# Altium schematic symbol library Schlib.SchLib: 6 symbols
Pins are listed as number, name and electrical type; pins without a type are passive.

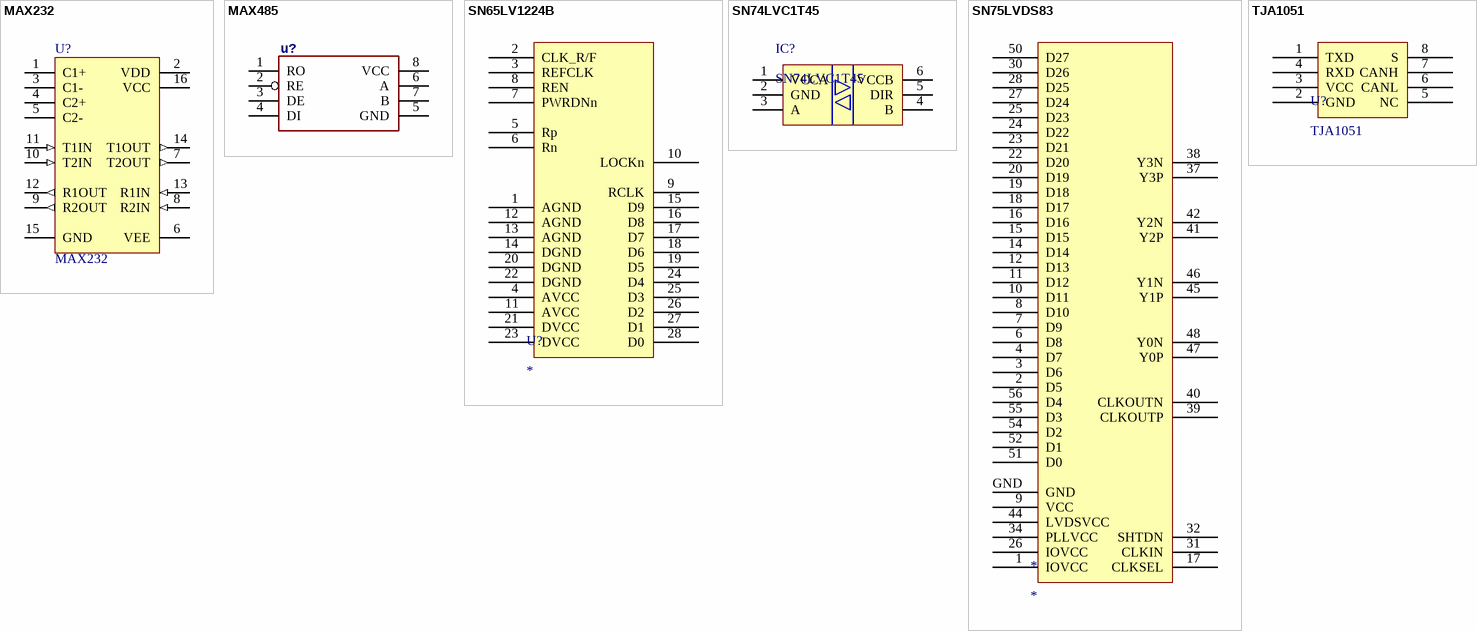
[diagram p0: symbols MAX232 to TJA1051]

## MAX232
designator U?
+5V Powered, Multi-Channel RS-232 Driver/Receiver
footprint _DIP16 (Footprint not found)
footprint _SO16 (Footprint not found)
pins: 1 C1+, 2 VDD (power), 3 C1-, 4 C2+, 5 C2-, 6 VEE (power), 7 T2OUT (out), 8 R2IN (in), 9 R2OUT (out), 10 T2IN (in), 11 T1IN (in), 12 R1OUT (out), 13 R1IN (in), 14 T1OUT (out), 15 GND (power), 16 VCC (power)

## MAX485
designator u?  (value not drawn)
footprint _DIP08 (Footprint not found)
footprint _SO08
footprint _DIP08-KIT (Footprint not found)
pins: 1 RO, 2 RE, 3 DE, 4 DI, 5 GND, 6 A, 7 B, 8 VCC

## SN65LV1224B
designator U?
footprint sn65lv1224
pins: 1 AGND, 2 CLK_R/F, 3 REFCLK, 4 AVCC, 5 Rp, 6 Rn, 7 PWRDNn, 8 REN, 9 RCLK, 10 LOCKn, 11 AVCC, 12 AGND, 13 AGND, 14 DGND, 15 D9, 16 D8, 17 D7, 18 D6, 19 D5, 20 DGND, 21 DVCC, 22 DGND, 23 DVCC, 24 D4, 25 D3, 26 D2, 27 D1, 28 D0

## SN74LVC1T45
designator IC?
Single-BIT Dual-Supply bus Transiver; Company: MY; Selling Source: Iranmicro.ir; Design Date: 12/02/2011
footprint TSOP95P280X145-6N (TSOP, 6-Leads, Body 3.0x1.8mm (max), Pitch 0.95mm, IPC Medium Density)
footprint TSOP65P210X110-6N (TSOP, 6-Leads, Body 2.2x1.4mm (max), Pitch 0.65mm, IPC Medium Density)
pins: 1 VCCA (power), 2 GND (power), 3 A (hiz), 4 B (hiz), 5 DIR (hiz), 6 VCCB (power)

## SN75LVDS83
designator *
footprint SN65LVDS83
pins: 1 IOVCC, 2 D5, 3 D6, 4 D7, 6 D8, 7 D9, 8 D10, 9 VCC, 10 D11, 11 D12, 12 D13, 14 D14, 15 D15, 16 D16, 17 CLKSEL, 18 D17, 19 D18, 20 D19, 22 D20, 23 D21, 24 D22, 25 D23, 26 IOVCC, 27 D24, 28 D25, 30 D26, 31 CLKIN, 32 SHTDN, 34 PLLVCC, 37 Y3P, 38 Y3N, 39 CLKOUTP, 40 CLKOUTN, 41 Y2P, 42 Y2N, 44 LVDSVCC, 45 Y1P, 46 Y1N, 47 Y0P, 48 Y0N, 50 D27, 51 D0, 52 D1, 54 D2, 55 D3, 56 D4, GND

## TJA1051
designator U?
footprint SO-8N (SOIC, 8-Leads, Body 4/89x3/90mm, Pitch 1/27mm, IPC Medium Density designer:abbas basereh)
pins: 1 TXD, 2 GND, 3 VCC, 4 RXD, 5 NC, 6 CANL, 7 CANH, 8 S